# Altium integrated library TNPW0603100KBXEN.IntLib: 1 symbol
Pins are listed as number, name and electrical type; pins without a type are passive.

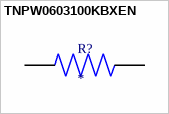
[diagram p0: symbol TNPW0603100KBXEN]

## TNPW0603100KBXEN
designator R?
MP: TNPW0603100KBXEN; Package: None; Price: None; Value: *; Availability: Unavailable
footprint RESC1508X55N
pins: 1, 2